# Altium integrated library Capacitors - Ceramic - 0402.IntLib: 4569 symbols (part 66 of 100)
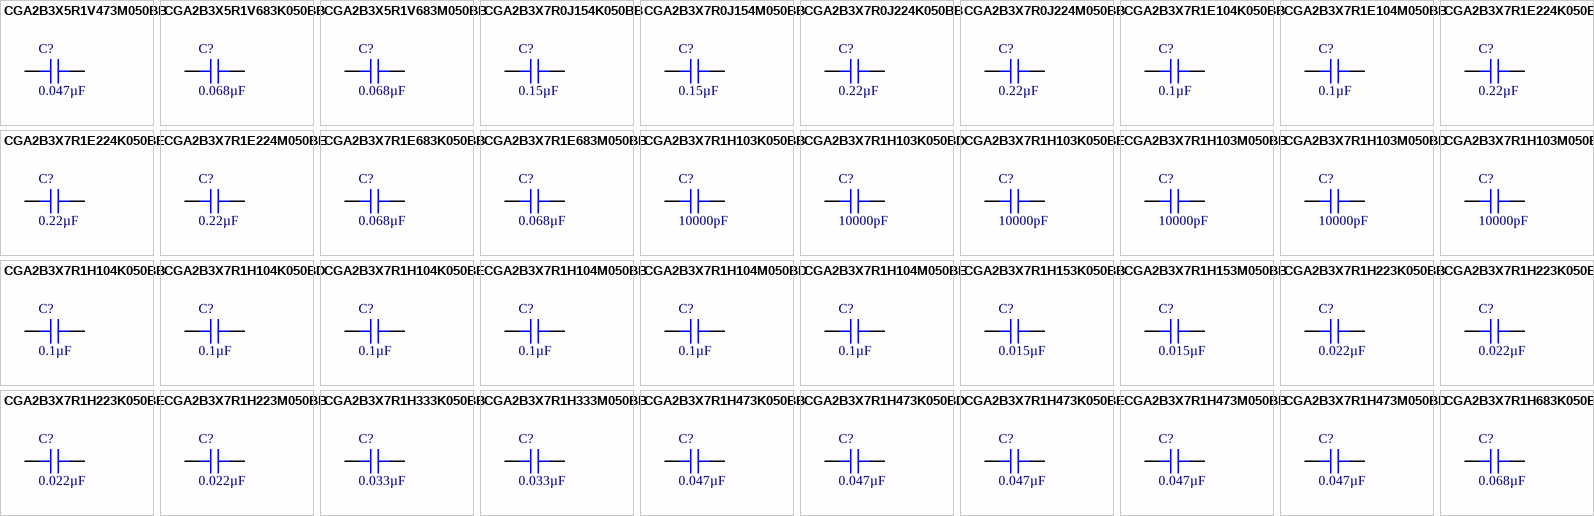
[diagram p179: symbols CGA2B3X5R1V473M050BB to CGA2B3X7R1H683K050BB]

## CGA2B3X7R1H153K050BB
designator C?, comment 0.015µF
CAP CER 0.015UF 50V X7R 0402; Part Number: CGA2B3X7R1H153K050BB; Manufacturer: TDK Corporation; Tolerance: ±10%; Value: 0.015µF; Applications: Automotive; Capacitance: 0.015µF; ComponentLink1Description: Datasheet; ComponentLink1URL: https://product.tdk.com/info/en/catalog/datasheets/mlcc_automotive_general_en.pdf?ref_disty=digikey; ComponentLink2Description: DigiKey Link; ComponentLink2URL: http://digikey.com/product-detail/en/tdk-corporation/CGA2B3X7R1H153K050BB/445-6894-1-ND/2672912; Device Package: 0402 (1005 Metric); LastUpdated: 9/2/2020 1:02:24 AM; Lifecycle Status: Active; Minimum Order: 1; Mounting Type: Surface Mount, MLCC; Operating Temperature: -55°C ~ 125°C; Package / Case: 0402 (1005 Metric); Packaging: TapeAndReel; PartId: 1927; Part Status: Active; Price: 0.01; Ratings: AEC-Q200; Series: CGA; Size / Dimension: 0.039" L x 0.020" W (1.00mm x 0.50mm); Supplier 1: DigiKey; Supplier Part Number 1: 445-6894-1-ND; Temperature Coefficient: X7R; Thickness (Max): 0.022" (0.55mm); Voltage - Rated: 50V
footprint CAP 0402_1005
pins: 1, 2

## CGA2B3X7R1H153M050BB
designator C?, comment 0.015µF
CAP CER 0.015UF 50V X7R 0402; Part Number: CGA2B3X7R1H153M050BB; Manufacturer: TDK Corporation; Tolerance: ±20%; Value: 0.015µF; Applications: Automotive; Capacitance: 0.015µF; ComponentLink1Description: Datasheet; ComponentLink1URL: https://product.tdk.com/info/en/catalog/datasheets/mlcc_automotive_general_en.pdf?ref_disty=digikey; ComponentLink2Description: DigiKey Link; ComponentLink2URL: http://digikey.com/product-detail/en/tdk-corporation/CGA2B3X7R1H153M050BB/445-12266-1-ND/3953932; Device Package: 0402 (1005 Metric); LastUpdated: 9/2/2020 1:01:27 AM; Lifecycle Status: Active; Minimum Order: 1; Mounting Type: Surface Mount, MLCC; Operating Temperature: -55°C ~ 125°C; Package / Case: 0402 (1005 Metric); Packaging: TapeAndReel; PartId: 12968; Part Status: Active; Price: 0.01; Ratings: AEC-Q200; Series: CGA; Size / Dimension: 0.039" L x 0.020" W (1.00mm x 0.50mm); Supplier 1: DigiKey; Supplier Part Number 1: 445-12266-1-ND; Temperature Coefficient: X7R; Thickness (Max): 0.022" (0.55mm); Voltage - Rated: 50V
footprint CAP 0402_1005
pins: 1, 2

## CGA2B3X7R1H223K050BB
designator C?, comment 0.022µF
CAP CER 0.022UF 50V X7R 0402; Part Number: CGA2B3X7R1H223K050BB; Manufacturer: TDK Corporation; Tolerance: ±10%; Value: 0.022µF; Applications: Automotive; Capacitance: 0.022µF; ComponentLink1Description: Datasheet; ComponentLink1URL: https://product.tdk.com/info/en/catalog/datasheets/mlcc_automotive_general_en.pdf?ref_disty=digikey; ComponentLink2Description: DigiKey Link; ComponentLink2URL: http://digikey.com/product-detail/en/tdk-corporation/CGA2B3X7R1H223K050BB/445-6895-1-ND/2672913; Device Package: 0402 (1005 Metric); LastUpdated: 9/2/2020 1:02:09 AM; Lifecycle Status: Active; Minimum Order: 1; Mounting Type: Surface Mount, MLCC; Operating Temperature: -55°C ~ 125°C; Package / Case: 0402 (1005 Metric); Packaging: TapeAndReel; PartId: 8865; Part Status: Active; Price: 0.01; Ratings: AEC-Q200; Series: CGA; Size / Dimension: 0.039" L x 0.020" W (1.00mm x 0.50mm); Supplier 1: DigiKey; Supplier Part Number 1: 445-6895-1-ND; Temperature Coefficient: X7R; Thickness (Max): 0.022" (0.55mm); Voltage - Rated: 50V
footprint CAP 0402_1005
pins: 1, 2

## CGA2B3X7R1H223K050BD
designator C?, comment 0.022µF
CAP CER 0.022UF 50V 0402 EPOXY; Part Number: CGA2B3X7R1H223K050BD; Manufacturer: TDK Corporation; Temperature Coefficient: X7R; Tolerance: ±10%; Value: 0.022µF; Applications: Automotive; Capacitance: 0.022µF; ComponentLink1Description: Datasheet; ComponentLink1URL: https://product.tdk.com/info/en/catalog/datasheets/mlcc_automotive_epoxy_en.pdf?ref_disty=digikey; ComponentLink2Description: DigiKey Link; ComponentLink2URL: http://digikey.com/product-detail/en/tdk-corporation/CGA2B3X7R1H223K050BD/445-9685-1-ND/3931612; Device Package: 0402 (1005 Metric); Features: Epoxy Mountable; LastUpdated: 9/2/2020 1:02:06 AM; Lifecycle Status: Active; Minimum Order: 1; Mounting Type: Surface Mount, MLCC, Epoxy; Operating Temperature: -55°C ~ 125°C; Package / Case: 0402 (1005 Metric); Packaging: TapeAndReel; PartId: 9795; Part Status: Active; Price: 0.03; Ratings: AEC-Q200; Series: CGA; Size / Dimension: 0.039" L x 0.020" W (1.00mm x 0.50mm); Supplier 1: DigiKey; Supplier Part Number 1: 445-9685-1-ND; Thickness (Max): 0.024" (0.60mm); Voltage - Rated: 50V
footprint CAP 0402_1005
pins: 1, 2

## CGA2B3X7R1H223K050BE
designator C?, comment 0.022µF
CAP CER 0.022UF 50V X7R 0402; Part Number: CGA2B3X7R1H223K050BE; Manufacturer: TDK Corporation; Tolerance: ±10%; Value: 0.022µF; Applications: Automotive, Boardflex Sensitive; Capacitance: 0.022µF; ComponentLink1Description: Datasheet; ComponentLink1URL: https://product.tdk.com/info/en/catalog/datasheets/mlcc_automotive_soft_en.pdf?ref_disty=digikey; ComponentLink2Description: DigiKey Link; ComponentLink2URL: http://digikey.com/product-detail/en/tdk-corporation/CGA2B3X7R1H223K050BE/445-173693-1-ND/5809764; Device Package: 0402 (1005 Metric); Features: Soft Termination; LastUpdated: 9/2/2020 1:02:14 AM; Lifecycle Status: Active; Minimum Order: 1; Mounting Type: Surface Mount, MLCC; Operating Temperature: -55°C ~ 125°C; Package / Case: 0402 (1005 Metric); Packaging: TapeAndReel; PartId: 6513; Part Status: Active; Price: 0.03; Ratings: AEC-Q200; Series: CGA; Size / Dimension: 0.039" L x 0.020" W (1.00mm x 0.50mm); Supplier 1: DigiKey; Supplier Part Number 1: 445-173693-1-ND; Temperature Coefficient: X7R; Thickness (Max): 0.024" (0.60mm); Voltage - Rated: 50V
footprint CAP 0402_1005
pins: 1, 2

## CGA2B3X7R1H223M050BB
designator C?, comment 0.022µF
CAP CER 0.022UF 50V X7R 0402; Part Number: CGA2B3X7R1H223M050BB; Manufacturer: TDK Corporation; Tolerance: ±20%; Value: 0.022µF; Applications: Automotive; Capacitance: 0.022µF; ComponentLink1Description: Datasheet; ComponentLink1URL: https://product.tdk.com/info/en/catalog/datasheets/mlcc_automotive_general_en.pdf?ref_disty=digikey; ComponentLink2Description: DigiKey Link; ComponentLink2URL: http://digikey.com/product-detail/en/tdk-corporation/CGA2B3X7R1H223M050BB/445-12267-1-ND/3953933; Device Package: 0402 (1005 Metric); LastUpdated: 9/2/2020 1:02:22 AM; Lifecycle Status: Active; Minimum Order: 1; Mounting Type: Surface Mount, MLCC; Operating Temperature: -55°C ~ 125°C; Package / Case: 0402 (1005 Metric); Packaging: TapeAndReel; PartId: 2803; Part Status: Active; Price: 0.01; Ratings: AEC-Q200; Series: CGA; Size / Dimension: 0.039" L x 0.020" W (1.00mm x 0.50mm); Supplier 1: DigiKey; Supplier Part Number 1: 445-12267-1-ND; Temperature Coefficient: X7R; Thickness (Max): 0.022" (0.55mm); Voltage - Rated: 50V
footprint CAP 0402_1005
pins: 1, 2

## CGA2B3X7R1H333K050BB
designator C?, comment 0.033µF
CAP CER 0.033UF 50V X7R 0402; Part Number: CGA2B3X7R1H333K050BB; Manufacturer: TDK Corporation; Tolerance: ±10%; Value: 0.033µF; Applications: Automotive; Capacitance: 0.033µF; ComponentLink1Description: Datasheet; ComponentLink1URL: https://product.tdk.com/info/en/catalog/datasheets/mlcc_automotive_general_en.pdf?ref_disty=digikey; ComponentLink2Description: DigiKey Link; ComponentLink2URL: http://digikey.com/product-detail/en/tdk-corporation/CGA2B3X7R1H333K050BB/445-6896-1-ND/2672914; Device Package: 0402 (1005 Metric); LastUpdated: 9/2/2020 1:02:11 AM; Lifecycle Status: Active; Minimum Order: 1; Mounting Type: Surface Mount, MLCC; Operating Temperature: -55°C ~ 125°C; Package / Case: 0402 (1005 Metric); Packaging: TapeAndReel; PartId: 7666; Part Status: Active; Price: 0.01; Ratings: AEC-Q200; Series: CGA; Size / Dimension: 0.039" L x 0.020" W (1.00mm x 0.50mm); Supplier 1: DigiKey; Supplier Part Number 1: 445-6896-1-ND; Temperature Coefficient: X7R; Thickness (Max): 0.022" (0.55mm); Voltage - Rated: 50V
footprint CAP 0402_1005
pins: 1, 2

## CGA2B3X7R1H333M050BB
designator C?, comment 0.033µF
CAP CER 0.033UF 50V X7R 0402; Part Number: CGA2B3X7R1H333M050BB; Manufacturer: TDK Corporation; Tolerance: ±20%; Value: 0.033µF; Applications: Automotive; Capacitance: 0.033µF; ComponentLink1Description: Datasheet; ComponentLink1URL: https://product.tdk.com/info/en/catalog/datasheets/mlcc_automotive_general_en.pdf?ref_disty=digikey; ComponentLink2Description: DigiKey Link; ComponentLink2URL: http://digikey.com/product-detail/en/tdk-corporation/CGA2B3X7R1H333M050BB/445-12268-1-ND/3953934; Device Package: 0402 (1005 Metric); LastUpdated: 9/2/2020 1:02:16 AM; Lifecycle Status: Active; Minimum Order: 1; Mounting Type: Surface Mount, MLCC; Operating Temperature: -55°C ~ 125°C; Package / Case: 0402 (1005 Metric); Packaging: TapeAndReel; PartId: 5550; Part Status: Active; Price: 0.01; Ratings: AEC-Q200; Series: CGA; Size / Dimension: 0.039" L x 0.020" W (1.00mm x 0.50mm); Supplier 1: DigiKey; Supplier Part Number 1: 445-12268-1-ND; Temperature Coefficient: X7R; Thickness (Max): 0.022" (0.55mm); Voltage - Rated: 50V
footprint CAP 0402_1005
pins: 1, 2

## CGA2B3X7R1H473K050BB
designator C?, comment 0.047µF
CAP CER 0.047UF 50V X7R 0402; Part Number: CGA2B3X7R1H473K050BB; Manufacturer: TDK Corporation; Tolerance: ±10%; Value: 0.047µF; Applications: Automotive; Capacitance: 0.047µF; ComponentLink1Description: Datasheet; ComponentLink1URL: https://product.tdk.com/info/en/catalog/datasheets/mlcc_automotive_general_en.pdf?ref_disty=digikey; ComponentLink2Description: DigiKey Link; ComponentLink2URL: http://digikey.com/product-detail/en/tdk-corporation/CGA2B3X7R1H473K050BB/445-6897-1-ND/2672915; Device Package: 0402 (1005 Metric); LastUpdated: 9/2/2020 1:02:21 AM; Lifecycle Status: Active; Minimum Order: 1; Mounting Type: Surface Mount, MLCC; Operating Temperature: -55°C ~ 125°C; Package / Case: 0402 (1005 Metric); Packaging: TapeAndReel; PartId: 3164; Part Status: Active; Price: 0.01; Ratings: AEC-Q200; Series: CGA; Size / Dimension: 0.039" L x 0.020" W (1.00mm x 0.50mm); Supplier 1: DigiKey; Supplier Part Number 1: 445-6897-1-ND; Temperature Coefficient: X7R; Thickness (Max): 0.022" (0.55mm); Voltage - Rated: 50V
footprint CAP 0402_1005
pins: 1, 2

## CGA2B3X7R1H473K050BD
designator C?, comment 0.047µF
CAP CER 0.047UF 50V 0402 EPOXY; Part Number: CGA2B3X7R1H473K050BD; Manufacturer: TDK Corporation; Temperature Coefficient: X7R; Tolerance: ±10%; Value: 0.047µF; Applications: Automotive; Capacitance: 0.047µF; ComponentLink1Description: Datasheet; ComponentLink1URL: https://product.tdk.com/info/en/catalog/datasheets/mlcc_automotive_epoxy_en.pdf?ref_disty=digikey; ComponentLink2Description: DigiKey Link; ComponentLink2URL: http://digikey.com/product-detail/en/tdk-corporation/CGA2B3X7R1H473K050BD/445-9689-1-ND/3931616; Device Package: 0402 (1005 Metric); Features: Epoxy Mountable; LastUpdated: 9/2/2020 1:01:56 AM; Lifecycle Status: Active; Minimum Order: 1; Mounting Type: Surface Mount, MLCC, Epoxy; Operating Temperature: -55°C ~ 125°C; Package / Case: 0402 (1005 Metric); Packaging: TapeAndReel; PartId: 11961; Part Status: Active; Price: 0.03; Ratings: AEC-Q200; Series: CGA; Size / Dimension: 0.039" L x 0.020" W (1.00mm x 0.50mm); Supplier 1: DigiKey; Supplier Part Number 1: 445-9689-1-ND; Thickness (Max): 0.024" (0.60mm); Voltage - Rated: 50V
footprint CAP 0402_1005
pins: 1, 2

## CGA2B3X7R1H473K050BE
designator C?, comment 0.047µF
CAP CER 0.047UF 50V X7R 0402; Part Number: CGA2B3X7R1H473K050BE; Manufacturer: TDK Corporation; Tolerance: ±10%; Value: 0.047µF; Applications: Automotive, Boardflex Sensitive; Capacitance: 0.047µF; ComponentLink1Description: Datasheet; ComponentLink1URL: https://product.tdk.com/info/en/catalog/datasheets/mlcc_automotive_soft_en.pdf?ref_disty=digikey; ComponentLink2Description: DigiKey Link; ComponentLink2URL: http://digikey.com/product-detail/en/tdk-corporation/CGA2B3X7R1H473K050BE/445-173647-1-ND/5809718; Device Package: 0402 (1005 Metric); Features: Soft Termination; LastUpdated: 9/2/2020 1:02:13 AM; Lifecycle Status: Active; Minimum Order: 1; Mounting Type: Surface Mount, MLCC; Operating Temperature: -55°C ~ 125°C; Package / Case: 0402 (1005 Metric); Packaging: TapeAndReel; PartId: 6936; Part Status: Active; Price: 0.03; Ratings: AEC-Q200; Series: CGA; Size / Dimension: 0.039" L x 0.020" W (1.00mm x 0.50mm); Supplier 1: DigiKey; Supplier Part Number 1: 445-173647-1-ND; Temperature Coefficient: X7R; Thickness (Max): 0.024" (0.60mm); Voltage - Rated: 50V
footprint CAP 0402_1005
pins: 1, 2

## CGA2B3X7R1H473M050BB
designator C?, comment 0.047µF
CAP CER 0.047UF 50V X7R 0402; Part Number: CGA2B3X7R1H473M050BB; Manufacturer: TDK Corporation; Tolerance: ±20%; Value: 0.047µF; Applications: Automotive; Capacitance: 0.047µF; ComponentLink1Description: Datasheet; ComponentLink1URL: https://product.tdk.com/info/en/catalog/datasheets/mlcc_automotive_general_en.pdf?ref_disty=digikey; ComponentLink2Description: DigiKey Link; ComponentLink2URL: http://digikey.com/product-detail/en/tdk-corporation/CGA2B3X7R1H473M050BB/445-12269-1-ND/3953935; Device Package: 0402 (1005 Metric); LastUpdated: 9/2/2020 1:01:27 AM; Lifecycle Status: Active; Minimum Order: 1; Mounting Type: Surface Mount, MLCC; Operating Temperature: -55°C ~ 125°C; Package / Case: 0402 (1005 Metric); Packaging: TapeAndReel; PartId: 12971; Part Status: Active; Price: 0.01; Ratings: AEC-Q200; Series: CGA; Size / Dimension: 0.039" L x 0.020" W (1.00mm x 0.50mm); Supplier 1: DigiKey; Supplier Part Number 1: 445-12269-1-ND; Temperature Coefficient: X7R; Thickness (Max): 0.022" (0.55mm); Voltage - Rated: 50V
footprint CAP 0402_1005
pins: 1, 2

## CGA2B3X7R1H473M050BD
designator C?, comment 0.047µF
CAP CER 0.047UF 50V 0402 EPOXY; Part Number: CGA2B3X7R1H473M050BD; Manufacturer: TDK Corporation; Temperature Coefficient: X7R; Tolerance: ±20%; Value: 0.047µF; Applications: Automotive; Capacitance: 0.047µF; ComponentLink1Description: Datasheet; ComponentLink1URL: https://product.tdk.com/info/en/catalog/datasheets/mlcc_automotive_epoxy_en.pdf?ref_disty=digikey; ComponentLink2Description: DigiKey Link; ComponentLink2URL: http://digikey.com/product-detail/en/tdk-corporation/CGA2B3X7R1H473M050BD/445-9690-1-ND/3931617; Device Package: 0402 (1005 Metric); Features: Epoxy Mountable; LastUpdated: 9/2/2020 1:02:14 AM; Lifecycle Status: Active; Minimum Order: 1; Mounting Type: Surface Mount, MLCC, Epoxy; Operating Temperature: -55°C ~ 125°C; Package / Case: 0402 (1005 Metric); Packaging: TapeAndReel; PartId: 6444; Part Status: Active; Price: 0.03; Ratings: AEC-Q200; Series: CGA; Size / Dimension: 0.039" L x 0.020" W (1.00mm x 0.50mm); Supplier 1: DigiKey; Supplier Part Number 1: 445-9690-1-ND; Thickness (Max): 0.024" (0.60mm); Voltage - Rated: 50V
footprint CAP 0402_1005
pins: 1, 2

## CGA2B3X7R1H683K050BB
designator C?, comment 0.068µF
CAP CER 0.068UF 50V X7R 0402; Part Number: CGA2B3X7R1H683K050BB; Manufacturer: TDK Corporation; Tolerance: ±10%; Value: 0.068µF; Applications: Automotive; Capacitance: 0.068µF; ComponentLink1Description: Datasheet; ComponentLink1URL: https://product.tdk.com/info/en/catalog/datasheets/mlcc_automotive_general_en.pdf?ref_disty=digikey; ComponentLink2Description: DigiKey Link; ComponentLink2URL: http://digikey.com/product-detail/en/tdk-corporation/CGA2B3X7R1H683K050BB/445-6898-1-ND/2672916; Device Package: 0402 (1005 Metric); LastUpdated: 9/2/2020 1:02:25 AM; Lifecycle Status: Active; Minimum Order: 1; Mounting Type: Surface Mount, MLCC; Operating Temperature: -55°C ~ 125°C; Package / Case: 0402 (1005 Metric); Packaging: TapeAndReel; PartId: 1772; Part Status: Active; Price: 0.02; Ratings: AEC-Q200; Series: CGA; Size / Dimension: 0.039" L x 0.020" W (1.00mm x 0.50mm); Supplier 1: DigiKey; Supplier Part Number 1: 445-6898-1-ND; Temperature Coefficient: X7R; Thickness (Max): 0.022" (0.55mm); Voltage - Rated: 50V
footprint CAP 0402_1005
pins: 1, 2

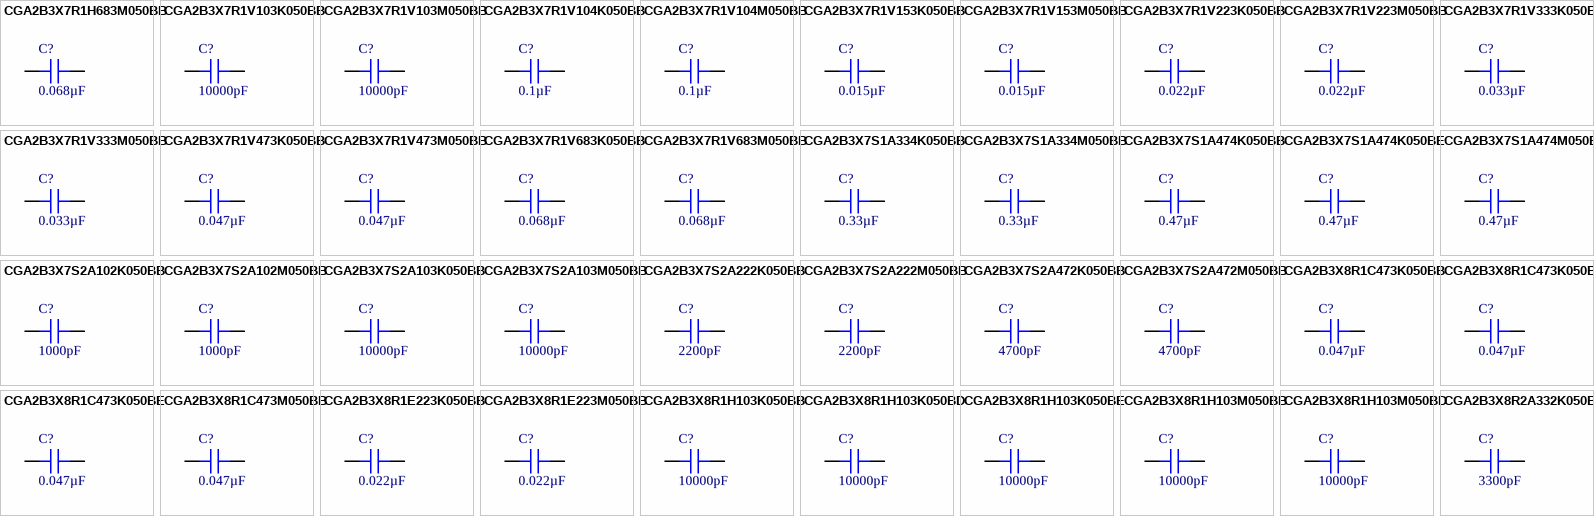
[diagram p75: symbols CGA2B3X7R1H683M050BB to CGA2B3X8R2A332K050BB]

## CGA2B3X7R1H683M050BB
designator C?, comment 0.068µF
CAP CER 0.068UF 50V X7R 0402; Part Number: CGA2B3X7R1H683M050BB; Manufacturer: TDK Corporation; Tolerance: ±20%; Value: 0.068µF; Applications: Automotive; Capacitance: 0.068µF; ComponentLink1Description: Datasheet; ComponentLink1URL: https://product.tdk.com/info/en/catalog/datasheets/mlcc_automotive_general_en.pdf?ref_disty=digikey; ComponentLink2Description: DigiKey Link; ComponentLink2URL: http://digikey.com/product-detail/en/tdk-corporation/CGA2B3X7R1H683M050BB/445-12270-1-ND/3953936; Device Package: 0402 (1005 Metric); LastUpdated: 9/2/2020 1:01:58 AM; Lifecycle Status: Active; Minimum Order: 1; Mounting Type: Surface Mount, MLCC; Operating Temperature: -55°C ~ 125°C; Package / Case: 0402 (1005 Metric); Packaging: TapeAndReel; PartId: 11890; Part Status: Active; Price: 0.02; Ratings: AEC-Q200; Series: CGA; Size / Dimension: 0.039" L x 0.020" W (1.00mm x 0.50mm); Supplier 1: DigiKey; Supplier Part Number 1: 445-12270-1-ND; Temperature Coefficient: X7R; Thickness (Max): 0.022" (0.55mm); Voltage - Rated: 50V
footprint CAP 0402_1005
pins: 1, 2

## CGA2B3X7R1V103K050BB
designator C?, comment 10000pF
CAP CER 10000PF 35V X7R 0402; Part Number: CGA2B3X7R1V103K050BB; Manufacturer: TDK Corporation; Tolerance: ±10%; Value: 10000pF; Applications: Automotive; Capacitance: 10000pF; ComponentLink1Description: Datasheet; ComponentLink1URL: https://product.tdk.com/info/en/catalog/datasheets/mlcc_automotive_general_en.pdf?ref_disty=digikey; ComponentLink2Description: DigiKey Link; ComponentLink2URL: http://digikey.com/product-detail/en/tdk-corporation/CGA2B3X7R1V103K050BB/445-6900-1-ND/2672918; Device Package: 0402 (1005 Metric); LastUpdated: 9/2/2020 1:02:09 AM; Lifecycle Status: Active; Minimum Order: 1; Mounting Type: Surface Mount, MLCC; Operating Temperature: -55°C ~ 125°C; Package / Case: 0402 (1005 Metric); Packaging: TapeAndReel; PartId: 8846; Part Status: Active; Price: 0.01; Ratings: AEC-Q200; Series: CGA; Size / Dimension: 0.039" L x 0.020" W (1.00mm x 0.50mm); Supplier 1: DigiKey; Supplier Part Number 1: 445-6900-1-ND; Temperature Coefficient: X7R; Thickness (Max): 0.022" (0.55mm); Voltage - Rated: 35V
footprint CAP 0402_1005
pins: 1, 2

## CGA2B3X7R1V103M050BB
designator C?, comment 10000pF
CAP CER 10000PF 35V X7R 0402; Part Number: CGA2B3X7R1V103M050BB; Manufacturer: TDK Corporation; Tolerance: ±20%; Value: 10000pF; Applications: Automotive; Capacitance: 10000pF; ComponentLink1Description: Datasheet; ComponentLink1URL: https://product.tdk.com/info/en/catalog/datasheets/mlcc_automotive_general_en.pdf?ref_disty=digikey; ComponentLink2Description: DigiKey Link; ComponentLink2URL: http://digikey.com/product-detail/en/tdk-corporation/CGA2B3X7R1V103M050BB/445-12253-1-ND/3953919; Device Package: 0402 (1005 Metric); LastUpdated: 9/2/2020 1:02:24 AM; Lifecycle Status: Active; Minimum Order: 1; Mounting Type: Surface Mount, MLCC; Operating Temperature: -55°C ~ 125°C; Package / Case: 0402 (1005 Metric); Packaging: TapeAndReel; PartId: 1926; Part Status: Active; Price: 0.01; Ratings: AEC-Q200; Series: CGA; Size / Dimension: 0.039" L x 0.020" W (1.00mm x 0.50mm); Supplier 1: DigiKey; Supplier Part Number 1: 445-12253-1-ND; Temperature Coefficient: X7R; Thickness (Max): 0.022" (0.55mm); Voltage - Rated: 35V
footprint CAP 0402_1005
pins: 1, 2

## CGA2B3X7R1V104K050BB
designator C?, comment 0.1µF
CAP CER 0.1UF 35V X7R 0402; Part Number: CGA2B3X7R1V104K050BB; Manufacturer: TDK Corporation; Tolerance: ±10%; Value: 0.1µF; Applications: Automotive; Capacitance: 0.1µF; ComponentLink1Description: Datasheet; ComponentLink1URL: https://product.tdk.com/info/en/catalog/datasheets/mlcc_automotive_general_en.pdf?ref_disty=digikey; ComponentLink2Description: DigiKey Link; ComponentLink2URL: http://digikey.com/product-detail/en/tdk-corporation/CGA2B3X7R1V104K050BB/445-6901-1-ND/2672919; Device Package: 0402 (1005 Metric); LastUpdated: 9/2/2020 1:02:21 AM; Lifecycle Status: Active; Minimum Order: 1; Mounting Type: Surface Mount, MLCC; Operating Temperature: -55°C ~ 125°C; Package / Case: 0402 (1005 Metric); Packaging: TapeAndReel; PartId: 3228; Part Status: Active; Price: 0.02; Ratings: AEC-Q200; Series: CGA; Size / Dimension: 0.039" L x 0.020" W (1.00mm x 0.50mm); Supplier 1: DigiKey; Supplier Part Number 1: 445-6901-1-ND; Temperature Coefficient: X7R; Thickness (Max): 0.022" (0.55mm); Voltage - Rated: 35V
footprint CAP 0402_1005
pins: 1, 2

## CGA2B3X7R1V104M050BB
designator C?, comment 0.1µF
CAP CER 0.1UF 35V X7R 0402; Part Number: CGA2B3X7R1V104M050BB; Manufacturer: TDK Corporation; Tolerance: ±20%; Value: 0.1µF; Applications: Automotive; Capacitance: 0.1µF; ComponentLink1Description: Datasheet; ComponentLink1URL: https://product.tdk.com/info/en/catalog/datasheets/mlcc_automotive_general_en.pdf?ref_disty=digikey; ComponentLink2Description: DigiKey Link; ComponentLink2URL: http://digikey.com/product-detail/en/tdk-corporation/CGA2B3X7R1V104M050BB/445-12264-1-ND/3953930; Device Package: 0402 (1005 Metric); LastUpdated: 9/2/2020 1:02:23 AM; Lifecycle Status: Active; Minimum Order: 1; Mounting Type: Surface Mount, MLCC; Operating Temperature: -55°C ~ 125°C; Package / Case: 0402 (1005 Metric); Packaging: TapeAndReel; PartId: 2251; Part Status: Active; Price: 0.02; Ratings: AEC-Q200; Series: CGA; Size / Dimension: 0.039" L x 0.020" W (1.00mm x 0.50mm); Supplier 1: DigiKey; Supplier Part Number 1: 445-12264-1-ND; Temperature Coefficient: X7R; Thickness (Max): 0.022" (0.55mm); Voltage - Rated: 35V
footprint CAP 0402_1005
pins: 1, 2

## CGA2B3X7R1V153K050BB
designator C?, comment 0.015µF
CAP CER 0.015UF 35V X7R 0402; Part Number: CGA2B3X7R1V153K050BB; Manufacturer: TDK Corporation; Tolerance: ±10%; Value: 0.015µF; Applications: Automotive; Capacitance: 0.015µF; ComponentLink1Description: Datasheet; ComponentLink1URL: https://product.tdk.com/info/en/catalog/datasheets/mlcc_automotive_general_en.pdf?ref_disty=digikey; ComponentLink2Description: DigiKey Link; ComponentLink2URL: http://digikey.com/product-detail/en/tdk-corporation/CGA2B3X7R1V153K050BB/445-12254-1-ND/3953920; Device Package: 0402 (1005 Metric); LastUpdated: 9/2/2020 1:02:17 AM; Lifecycle Status: Active; Minimum Order: 1; Mounting Type: Surface Mount, MLCC; Operating Temperature: -55°C ~ 125°C; Package / Case: 0402 (1005 Metric); Packaging: TapeAndReel; PartId: 5149; Part Status: Active; Price: 0.01; Ratings: AEC-Q200; Series: CGA; Size / Dimension: 0.039" L x 0.020" W (1.00mm x 0.50mm); Supplier 1: DigiKey; Supplier Part Number 1: 445-12254-1-ND; Temperature Coefficient: X7R; Thickness (Max): 0.022" (0.55mm); Voltage - Rated: 35V
footprint CAP 0402_1005
pins: 1, 2

## CGA2B3X7R1V153M050BB
designator C?, comment 0.015µF
CAP CER 0.015UF 35V X7R 0402; Part Number: CGA2B3X7R1V153M050BB; Manufacturer: TDK Corporation; Tolerance: ±20%; Value: 0.015µF; Applications: Automotive; Capacitance: 0.015µF; ComponentLink1Description: Datasheet; ComponentLink1URL: https://product.tdk.com/info/en/catalog/datasheets/mlcc_automotive_general_en.pdf?ref_disty=digikey; ComponentLink2Description: DigiKey Link; ComponentLink2URL: http://digikey.com/product-detail/en/tdk-corporation/CGA2B3X7R1V153M050BB/445-12255-1-ND/3953921; Device Package: 0402 (1005 Metric); LastUpdated: 9/2/2020 1:02:06 AM; Lifecycle Status: Active; Minimum Order: 1; Mounting Type: Surface Mount, MLCC; Operating Temperature: -55°C ~ 125°C; Package / Case: 0402 (1005 Metric); Packaging: TapeAndReel; PartId: 9975; Part Status: Active; Price: 0.01; Ratings: AEC-Q200; Series: CGA; Size / Dimension: 0.039" L x 0.020" W (1.00mm x 0.50mm); Supplier 1: DigiKey; Supplier Part Number 1: 445-12255-1-ND; Temperature Coefficient: X7R; Thickness (Max): 0.022" (0.55mm); Voltage - Rated: 35V
footprint CAP 0402_1005
pins: 1, 2

## CGA2B3X7R1V223K050BB
designator C?, comment 0.022µF
CAP CER 0.022UF 35V X7R 0402; Part Number: CGA2B3X7R1V223K050BB; Manufacturer: TDK Corporation; Tolerance: ±10%; Value: 0.022µF; Applications: Automotive; Capacitance: 0.022µF; ComponentLink1Description: Datasheet; ComponentLink1URL: https://product.tdk.com/info/en/catalog/datasheets/mlcc_automotive_general_en.pdf?ref_disty=digikey; ComponentLink2Description: DigiKey Link; ComponentLink2URL: http://digikey.com/product-detail/en/tdk-corporation/CGA2B3X7R1V223K050BB/445-12256-1-ND/3953922; Device Package: 0402 (1005 Metric); LastUpdated: 9/2/2020 1:02:16 AM; Lifecycle Status: Active; Minimum Order: 1; Mounting Type: Surface Mount, MLCC; Operating Temperature: -55°C ~ 125°C; Package / Case: 0402 (1005 Metric); Packaging: TapeAndReel; PartId: 5216; Part Status: Active; Price: 0.01; Ratings: AEC-Q200; Series: CGA; Size / Dimension: 0.039" L x 0.020" W (1.00mm x 0.50mm); Supplier 1: DigiKey; Supplier Part Number 1: 445-12256-1-ND; Temperature Coefficient: X7R; Thickness (Max): 0.022" (0.55mm); Voltage - Rated: 35V
footprint CAP 0402_1005
pins: 1, 2

## CGA2B3X7R1V223M050BB
designator C?, comment 0.022µF
CAP CER 0.022UF 35V X7R 0402; Part Number: CGA2B3X7R1V223M050BB; Manufacturer: TDK Corporation; Tolerance: ±20%; Value: 0.022µF; Applications: Automotive; Capacitance: 0.022µF; ComponentLink1Description: Datasheet; ComponentLink1URL: https://product.tdk.com/info/en/catalog/datasheets/mlcc_automotive_general_en.pdf?ref_disty=digikey; ComponentLink2Description: DigiKey Link; ComponentLink2URL: http://digikey.com/product-detail/en/tdk-corporation/CGA2B3X7R1V223M050BB/445-12257-1-ND/3953923; Device Package: 0402 (1005 Metric); LastUpdated: 9/2/2020 1:02:12 AM; Lifecycle Status: Active; Minimum Order: 1; Mounting Type: Surface Mount, MLCC; Operating Temperature: -55°C ~ 125°C; Package / Case: 0402 (1005 Metric); Packaging: TapeAndReel; PartId: 7351; Part Status: Active; Price: 0.01; Ratings: AEC-Q200; Series: CGA; Size / Dimension: 0.039" L x 0.020" W (1.00mm x 0.50mm); Supplier 1: DigiKey; Supplier Part Number 1: 445-12257-1-ND; Temperature Coefficient: X7R; Thickness (Max): 0.022" (0.55mm); Voltage - Rated: 35V
footprint CAP 0402_1005
pins: 1, 2

## CGA2B3X7R1V333K050BB
designator C?, comment 0.033µF
CAP CER 0.033UF 35V X7R 0402; Part Number: CGA2B3X7R1V333K050BB; Manufacturer: TDK Corporation; Tolerance: ±10%; Value: 0.033µF; Applications: Automotive; Capacitance: 0.033µF; ComponentLink1Description: Datasheet; ComponentLink1URL: https://product.tdk.com/info/en/catalog/datasheets/mlcc_automotive_general_en.pdf?ref_disty=digikey; ComponentLink2Description: DigiKey Link; ComponentLink2URL: http://digikey.com/product-detail/en/tdk-corporation/CGA2B3X7R1V333K050BB/445-12258-1-ND/3953924; Device Package: 0402 (1005 Metric); LastUpdated: 9/2/2020 1:02:18 AM; Lifecycle Status: Active; Minimum Order: 1; Mounting Type: Surface Mount, MLCC; Operating Temperature: -55°C ~ 125°C; Package / Case: 0402 (1005 Metric); Packaging: TapeAndReel; PartId: 4431; Part Status: Active; Price: 0.01; Ratings: AEC-Q200; Series: CGA; Size / Dimension: 0.039" L x 0.020" W (1.00mm x 0.50mm); Supplier 1: DigiKey; Supplier Part Number 1: 445-12258-1-ND; Temperature Coefficient: X7R; Thickness (Max): 0.022" (0.55mm); Voltage - Rated: 35V
footprint CAP 0402_1005
pins: 1, 2

## CGA2B3X7R1V333M050BB
designator C?, comment 0.033µF
CAP CER 0.033UF 35V X7R 0402; Part Number: CGA2B3X7R1V333M050BB; Manufacturer: TDK Corporation; Tolerance: ±20%; Value: 0.033µF; Applications: Automotive; Capacitance: 0.033µF; ComponentLink1Description: Datasheet; ComponentLink1URL: https://product.tdk.com/info/en/catalog/datasheets/mlcc_automotive_general_en.pdf?ref_disty=digikey; ComponentLink2Description: DigiKey Link; ComponentLink2URL: http://digikey.com/product-detail/en/tdk-corporation/CGA2B3X7R1V333M050BB/445-12259-1-ND/3953925; Device Package: 0402 (1005 Metric); LastUpdated: 9/2/2020 1:02:12 AM; Lifecycle Status: Active; Minimum Order: 1; Mounting Type: Surface Mount, MLCC; Operating Temperature: -55°C ~ 125°C; Package / Case: 0402 (1005 Metric); Packaging: TapeAndReel; PartId: 7393; Part Status: Active; Price: 0.01; Ratings: AEC-Q200; Series: CGA; Size / Dimension: 0.039" L x 0.020" W (1.00mm x 0.50mm); Supplier 1: DigiKey; Supplier Part Number 1: 445-12259-1-ND; Temperature Coefficient: X7R; Thickness (Max): 0.022" (0.55mm); Voltage - Rated: 35V
footprint CAP 0402_1005
pins: 1, 2

## CGA2B3X7R1V473K050BB
designator C?, comment 0.047µF
CAP CER 0.047UF 35V X7R 0402; Part Number: CGA2B3X7R1V473K050BB; Manufacturer: TDK Corporation; Tolerance: ±10%; Value: 0.047µF; Applications: Automotive; Capacitance: 0.047µF; ComponentLink1Description: Datasheet; ComponentLink1URL: https://product.tdk.com/info/en/catalog/datasheets/mlcc_automotive_general_en.pdf?ref_disty=digikey; ComponentLink2Description: DigiKey Link; ComponentLink2URL: http://digikey.com/product-detail/en/tdk-corporation/CGA2B3X7R1V473K050BB/445-12260-1-ND/3953926; Device Package: 0402 (1005 Metric); LastUpdated: 9/2/2020 1:02:16 AM; Lifecycle Status: Active; Minimum Order: 1; Mounting Type: Surface Mount, MLCC; Operating Temperature: -55°C ~ 125°C; Package / Case: 0402 (1005 Metric); Packaging: TapeAndReel; PartId: 5512; Part Status: Active; Price: 0.01; Ratings: AEC-Q200; Series: CGA; Size / Dimension: 0.039" L x 0.020" W (1.00mm x 0.50mm); Supplier 1: DigiKey; Supplier Part Number 1: 445-12260-1-ND; Temperature Coefficient: X7R; Thickness (Max): 0.022" (0.55mm); Voltage - Rated: 35V
footprint CAP 0402_1005
pins: 1, 2

## CGA2B3X7R1V473M050BB
designator C?, comment 0.047µF
CAP CER 0.047UF 35V X7R 0402; Part Number: CGA2B3X7R1V473M050BB; Manufacturer: TDK Corporation; Tolerance: ±20%; Value: 0.047µF; Applications: Automotive; Capacitance: 0.047µF; ComponentLink1Description: Datasheet; ComponentLink1URL: https://product.tdk.com/info/en/catalog/datasheets/mlcc_automotive_general_en.pdf?ref_disty=digikey; ComponentLink2Description: DigiKey Link; ComponentLink2URL: http://digikey.com/product-detail/en/tdk-corporation/CGA2B3X7R1V473M050BB/445-12261-1-ND/3953927; Device Package: 0402 (1005 Metric); LastUpdated: 9/2/2020 1:02:12 AM; Lifecycle Status: Active; Minimum Order: 1; Mounting Type: Surface Mount, MLCC; Operating Temperature: -55°C ~ 125°C; Package / Case: 0402 (1005 Metric); Packaging: TapeAndReel; PartId: 7407; Part Status: Active; Price: 0.01; Ratings: AEC-Q200; Series: CGA; Size / Dimension: 0.039" L x 0.020" W (1.00mm x 0.50mm); Supplier 1: DigiKey; Supplier Part Number 1: 445-12261-1-ND; Temperature Coefficient: X7R; Thickness (Max): 0.022" (0.55mm); Voltage - Rated: 35V
footprint CAP 0402_1005
pins: 1, 2

## CGA2B3X7R1V683K050BB
designator C?, comment 0.068µF
CAP CER 0.068UF 35V X7R 0402; Part Number: CGA2B3X7R1V683K050BB; Manufacturer: TDK Corporation; Tolerance: ±10%; Value: 0.068µF; Applications: Automotive; Capacitance: 0.068µF; ComponentLink1Description: Datasheet; ComponentLink1URL: https://product.tdk.com/info/en/catalog/datasheets/mlcc_automotive_general_en.pdf?ref_disty=digikey; ComponentLink2Description: DigiKey Link; ComponentLink2URL: http://digikey.com/product-detail/en/tdk-corporation/CGA2B3X7R1V683K050BB/445-12262-1-ND/3953928; Device Package: 0402 (1005 Metric); LastUpdated: 9/2/2020 1:01:58 AM; Lifecycle Status: Active; Minimum Order: 1; Mounting Type: Surface Mount, MLCC; Operating Temperature: -55°C ~ 125°C; Package / Case: 0402 (1005 Metric); Packaging: TapeAndReel; PartId: 11903; Part Status: Active; Price: 0.02; Ratings: AEC-Q200; Series: CGA; Size / Dimension: 0.039" L x 0.020" W (1.00mm x 0.50mm); Supplier 1: DigiKey; Supplier Part Number 1: 445-12262-1-ND; Temperature Coefficient: X7R; Thickness (Max): 0.022" (0.55mm); Voltage - Rated: 35V
footprint CAP 0402_1005
pins: 1, 2

## CGA2B3X7R1V683M050BB
designator C?, comment 0.068µF
CAP CER 0.068UF 35V X7R 0402; Part Number: CGA2B3X7R1V683M050BB; Manufacturer: TDK Corporation; Tolerance: ±20%; Value: 0.068µF; Applications: Automotive; Capacitance: 0.068µF; ComponentLink1Description: Datasheet; ComponentLink1URL: https://product.tdk.com/info/en/catalog/datasheets/mlcc_automotive_general_en.pdf?ref_disty=digikey; ComponentLink2Description: DigiKey Link; ComponentLink2URL: http://digikey.com/product-detail/en/tdk-corporation/CGA2B3X7R1V683M050BB/445-12263-1-ND/3953929; Device Package: 0402 (1005 Metric); LastUpdated: 9/2/2020 1:01:58 AM; Lifecycle Status: Active; Minimum Order: 1; Mounting Type: Surface Mount, MLCC; Operating Temperature: -55°C ~ 125°C; Package / Case: 0402 (1005 Metric); Packaging: TapeAndReel; PartId: 11906; Part Status: Active; Price: 0.02; Ratings: AEC-Q200; Series: CGA; Size / Dimension: 0.039" L x 0.020" W (1.00mm x 0.50mm); Supplier 1: DigiKey; Supplier Part Number 1: 445-12263-1-ND; Temperature Coefficient: X7R; Thickness (Max): 0.022" (0.55mm); Voltage - Rated: 35V
footprint CAP 0402_1005
pins: 1, 2

## CGA2B3X7S1A334K050BB
designator C?, comment 0.33µF
CAP CER 0.33UF 10V X7S 0402; Part Number: CGA2B3X7S1A334K050BB; Manufacturer: TDK Corporation; Tolerance: ±10%; Value: 0.33µF; Applications: Automotive; Capacitance: 0.33µF; ComponentLink1Description: Datasheet; ComponentLink1URL: https://product.tdk.com/info/en/catalog/datasheets/mlcc_automotive_general_en.pdf?ref_disty=digikey; ComponentLink2Description: DigiKey Link; ComponentLink2URL: http://digikey.com/product-detail/en/tdk-corporation/CGA2B3X7S1A334K050BB/445-16098-1-ND/4712577; Device Package: 0402 (1005 Metric); LastUpdated: 9/2/2020 1:02:17 AM; Lifecycle Status: Active; Minimum Order: 1; Mounting Type: Surface Mount, MLCC; Operating Temperature: -55°C ~ 125°C; Package / Case: 0402 (1005 Metric); Packaging: TapeAndReel; PartId: 5055; Part Status: Active; Price: 0.04; Ratings: AEC-Q200; Series: CGA; Size / Dimension: 0.039" L x 0.020" W (1.00mm x 0.50mm); Supplier 1: DigiKey; Supplier Part Number 1: 445-16098-1-ND; Temperature Coefficient: X7S; Thickness (Max): 0.022" (0.55mm); Voltage - Rated: 10V
footprint CAP 0402_1005
pins: 1, 2

## CGA2B3X7S1A334M050BB
designator C?, comment 0.33µF
CAP CER 0.33UF 10V X7S 0402; Part Number: CGA2B3X7S1A334M050BB; Manufacturer: TDK Corporation; Tolerance: ±20%; Value: 0.33µF; Applications: Automotive; Capacitance: 0.33µF; ComponentLink1Description: Datasheet; ComponentLink1URL: https://product.tdk.com/info/en/catalog/datasheets/mlcc_automotive_general_en.pdf?ref_disty=digikey; ComponentLink2Description: DigiKey Link; ComponentLink2URL: http://digikey.com/product-detail/en/tdk-corporation/CGA2B3X7S1A334M050BB/445-16099-1-ND/4712578; Device Package: 0402 (1005 Metric); LastUpdated: 9/2/2020 1:02:20 AM; Lifecycle Status: Active; Minimum Order: 1; Mounting Type: Surface Mount, MLCC; Operating Temperature: -55°C ~ 125°C; Package / Case: 0402 (1005 Metric); Packaging: TapeAndReel; PartId: 3687; Part Status: Active; Price: 0.04; Ratings: AEC-Q200; Series: CGA; Size / Dimension: 0.039" L x 0.020" W (1.00mm x 0.50mm); Supplier 1: DigiKey; Supplier Part Number 1: 445-16099-1-ND; Temperature Coefficient: X7S; Thickness (Max): 0.022" (0.55mm); Voltage - Rated: 10V
footprint CAP 0402_1005
pins: 1, 2

## CGA2B3X7S1A474K050BB
designator C?, comment 0.47µF
CAP CER 0.47UF 10V X7S 0402; Part Number: CGA2B3X7S1A474K050BB; Manufacturer: TDK Corporation; Tolerance: ±10%; Value: 0.47µF; Applications: Automotive; Capacitance: 0.47µF; ComponentLink1Description: Datasheet; ComponentLink1URL: https://product.tdk.com/info/en/catalog/datasheets/mlcc_automotive_general_en.pdf?ref_disty=digikey; ComponentLink2Description: DigiKey Link; ComponentLink2URL: http://digikey.com/product-detail/en/tdk-corporation/CGA2B3X7S1A474K050BB/445-16100-1-ND/4712579; Device Package: 0402 (1005 Metric); LastUpdated: 9/2/2020 1:01:11 AM; Lifecycle Status: Active; Minimum Order: 1; Mounting Type: Surface Mount, MLCC; Operating Temperature: -55°C ~ 125°C; Package / Case: 0402 (1005 Metric); Packaging: TapeAndReel; PartId: 13523; Part Status: Active; Price: 0.05; Ratings: AEC-Q200; Series: CGA; Size / Dimension: 0.039" L x 0.020" W (1.00mm x 0.50mm); Supplier 1: DigiKey; Supplier Part Number 1: 445-16100-1-ND; Temperature Coefficient: X7S; Thickness (Max): 0.022" (0.55mm); Voltage - Rated: 10V
footprint CAP 0402_1005
pins: 1, 2

## CGA2B3X7S1A474K050BE
designator C?, comment 0.47µF
CAP CER 0.47UF 10V X7S 0402; Part Number: CGA2B3X7S1A474K050BE; Manufacturer: TDK Corporation; Tolerance: ±10%; Value: 0.47µF; Applications: Automotive, Boardflex Sensitive; Capacitance: 0.47µF; ComponentLink1Description: Datasheet; ComponentLink1URL: https://product.tdk.com/info/en/catalog/datasheets/mlcc_automotive_soft_en.pdf?ref_disty=digikey; ComponentLink2Description: DigiKey Link; ComponentLink2URL: http://digikey.com/product-detail/en/tdk-corporation/CGA2B3X7S1A474K050BE/445-173723-1-ND/5809794; Device Package: 0402 (1005 Metric); Features: Soft Termination; LastUpdated: 9/2/2020 1:02:11 AM; Lifecycle Status: Active; Minimum Order: 1; Mounting Type: Surface Mount, MLCC; Operating Temperature: -55°C ~ 125°C; Package / Case: 0402 (1005 Metric); Packaging: TapeAndReel; PartId: 7629; Part Status: Active; Price: 0.05; Ratings: AEC-Q200; Series: CGA; Size / Dimension: 0.039" L x 0.020" W (1.00mm x 0.50mm); Supplier 1: DigiKey; Supplier Part Number 1: 445-173723-1-ND; Temperature Coefficient: X7S; Thickness (Max): 0.024" (0.60mm); Voltage - Rated: 10V
footprint CAP 0402_1005
pins: 1, 2

## CGA2B3X7S1A474M050BB
designator C?, comment 0.47µF
CAP CER 0.47UF 10V X7S 0402; Part Number: CGA2B3X7S1A474M050BB; Manufacturer: TDK Corporation; Tolerance: ±20%; Value: 0.47µF; Applications: Automotive; Capacitance: 0.47µF; ComponentLink1Description: Datasheet; ComponentLink1URL: https://product.tdk.com/info/en/catalog/datasheets/mlcc_automotive_general_en.pdf?ref_disty=digikey; ComponentLink2Description: DigiKey Link; ComponentLink2URL: http://digikey.com/product-detail/en/tdk-corporation/CGA2B3X7S1A474M050BB/445-16101-1-ND/4712580; Device Package: 0402 (1005 Metric); LastUpdated: 9/2/2020 1:02:11 AM; Lifecycle Status: Active; Minimum Order: 1; Mounting Type: Surface Mount, MLCC; Operating Temperature: -55°C ~ 125°C; Package / Case: 0402 (1005 Metric); Packaging: TapeAndReel; PartId: 7956; Part Status: Active; Price: 0.05; Ratings: AEC-Q200; Series: CGA; Size / Dimension: 0.039" L x 0.020" W (1.00mm x 0.50mm); Supplier 1: DigiKey; Supplier Part Number 1: 445-16101-1-ND; Temperature Coefficient: X7S; Thickness (Max): 0.022" (0.55mm); Voltage - Rated: 10V
footprint CAP 0402_1005
pins: 1, 2

## CGA2B3X7S2A102K050BB
designator C?, comment 1000pF
CAP CER 1000PF 100V X7S 0402; Part Number: CGA2B3X7S2A102K050BB; Manufacturer: TDK Corporation; Tolerance: ±10%; Value: 1000pF; Applications: Automotive; Capacitance: 1000pF; ComponentLink1Description: Datasheet; ComponentLink1URL: https://product.tdk.com/info/en/catalog/datasheets/mlcc_automotive_midvoltage_en.pdf?ref_disty=digikey; ComponentLink2Description: DigiKey Link; ComponentLink2URL: http://digikey.com/product-detail/en/tdk-corporation/CGA2B3X7S2A102K050BB/445-6904-1-ND/2672922; Device Package: 0402 (1005 Metric); LastUpdated: 9/2/2020 1:01:56 AM; Lifecycle Status: Active; Minimum Order: 1; Mounting Type: Surface Mount, MLCC; Operating Temperature: -55°C ~ 125°C; Package / Case: 0402 (1005 Metric); Packaging: TapeAndReel; PartId: 11975; Part Status: Active; Price: 0.03; Ratings: AEC-Q200; Series: CGA; Size / Dimension: 0.039" L x 0.020" W (1.00mm x 0.50mm); Supplier 1: DigiKey; Supplier Part Number 1: 445-6904-1-ND; Temperature Coefficient: X7S; Thickness (Max): 0.022" (0.55mm); Voltage - Rated: 100V
footprint CAP 0402_1005
pins: 1, 2

## CGA2B3X7S2A102M050BB
designator C?, comment 1000pF
CAP CER 1000PF 100V X7S 0402; Part Number: CGA2B3X7S2A102M050BB; Manufacturer: TDK Corporation; Tolerance: ±20%; Value: 1000pF; Applications: Automotive; Capacitance: 1000pF; ComponentLink1Description: Datasheet; ComponentLink1URL: https://product.tdk.com/info/en/catalog/datasheets/mlcc_automotive_midvoltage_en.pdf?ref_disty=digikey; ComponentLink2Description: DigiKey Link; ComponentLink2URL: http://digikey.com/product-detail/en/tdk-corporation/CGA2B3X7S2A102M050BB/445-12287-1-ND/3953953; Device Package: 0402 (1005 Metric); LastUpdated: 9/2/2020 1:02:14 AM; Lifecycle Status: Active; Minimum Order: 1; Mounting Type: Surface Mount, MLCC; Operating Temperature: -55°C ~ 125°C; Package / Case: 0402 (1005 Metric); Packaging: TapeAndReel; PartId: 6437; Part Status: Active; Price: 0.03; Ratings: AEC-Q200; Series: CGA; Size / Dimension: 0.039" L x 0.020" W (1.00mm x 0.50mm); Supplier 1: DigiKey; Supplier Part Number 1: 445-12287-1-ND; Temperature Coefficient: X7S; Thickness (Max): 0.022" (0.55mm); Voltage - Rated: 100V
footprint CAP 0402_1005
pins: 1, 2

## CGA2B3X7S2A103K050BB
designator C?, comment 10000pF
CAP CER 10000PF 100V X7S 0402; Part Number: CGA2B3X7S2A103K050BB; Manufacturer: TDK Corporation; Tolerance: ±10%; Value: 10000pF; Applications: Automotive; Capacitance: 10000pF; ComponentLink1Description: Datasheet; ComponentLink1URL: https://product.tdk.com/info/en/catalog/datasheets/mlcc_automotive_midvoltage_en.pdf?ref_disty=digikey; ComponentLink2Description: DigiKey Link; ComponentLink2URL: http://digikey.com/product-detail/en/tdk-corporation/CGA2B3X7S2A103K050BB/445-6910-1-ND/2672928; Device Package: 0402 (1005 Metric); LastUpdated: 9/2/2020 1:02:06 AM; Lifecycle Status: Active; Minimum Order: 1; Mounting Type: Surface Mount, MLCC; Operating Temperature: -55°C ~ 125°C; Package / Case: 0402 (1005 Metric); Packaging: TapeAndReel; PartId: 9792; Part Status: Active; Price: 0.03; Ratings: AEC-Q200; Series: CGA; Size / Dimension: 0.039" L x 0.020" W (1.00mm x 0.50mm); Supplier 1: DigiKey; Supplier Part Number 1: 445-6910-1-ND; Temperature Coefficient: X7S; Thickness (Max): 0.022" (0.55mm); Voltage - Rated: 100V
footprint CAP 0402_1005
pins: 1, 2

## CGA2B3X7S2A103M050BB
designator C?, comment 10000pF
CAP CER 10000PF 100V X7S 0402; Part Number: CGA2B3X7S2A103M050BB; Manufacturer: TDK Corporation; Tolerance: ±20%; Value: 10000pF; Applications: Automotive; Capacitance: 10000pF; ComponentLink1Description: Datasheet; ComponentLink1URL: https://product.tdk.com/info/en/catalog/datasheets/mlcc_automotive_midvoltage_en.pdf?ref_disty=digikey; ComponentLink2Description: DigiKey Link; ComponentLink2URL: http://digikey.com/product-detail/en/tdk-corporation/CGA2B3X7S2A103M050BB/445-12286-1-ND/3953952; Device Package: 0402 (1005 Metric); LastUpdated: 9/2/2020 1:02:07 AM; Lifecycle Status: Active; Minimum Order: 1; Mounting Type: Surface Mount, MLCC; Operating Temperature: -55°C ~ 125°C; Package / Case: 0402 (1005 Metric); Packaging: TapeAndReel; PartId: 9767; Part Status: Active; Price: 0.03; Ratings: AEC-Q200; Series: CGA; Size / Dimension: 0.039" L x 0.020" W (1.00mm x 0.50mm); Supplier 1: DigiKey; Supplier Part Number 1: 445-12286-1-ND; Temperature Coefficient: X7S; Thickness (Max): 0.022" (0.55mm); Voltage - Rated: 100V
footprint CAP 0402_1005
pins: 1, 2

## CGA2B3X7S2A222K050BB
designator C?, comment 2200pF
CAP CER 2200PF 100V X7S 0402; Part Number: CGA2B3X7S2A222K050BB; Manufacturer: TDK Corporation; Tolerance: ±10%; Value: 2200pF; Applications: Automotive; Capacitance: 2200pF; ComponentLink1Description: Datasheet; ComponentLink1URL: https://product.tdk.com/info/en/catalog/datasheets/mlcc_automotive_midvoltage_en.pdf?ref_disty=digikey; ComponentLink2Description: DigiKey Link; ComponentLink2URL: http://digikey.com/product-detail/en/tdk-corporation/CGA2B3X7S2A222K050BB/445-6906-1-ND/2672924; Device Package: 0402 (1005 Metric); LastUpdated: 9/2/2020 1:01:16 AM; Lifecycle Status: Active; Minimum Order: 1; Mounting Type: Surface Mount, MLCC; Operating Temperature: -55°C ~ 125°C; Package / Case: 0402 (1005 Metric); Packaging: TapeAndReel; PartId: 13386; Part Status: Active; Price: 0.03; Ratings: AEC-Q200; Series: CGA; Size / Dimension: 0.039" L x 0.020" W (1.00mm x 0.50mm); Supplier 1: DigiKey; Supplier Part Number 1: 445-6906-1-ND; Temperature Coefficient: X7S; Thickness (Max): 0.022" (0.55mm); Voltage - Rated: 100V
footprint CAP 0402_1005
pins: 1, 2

## CGA2B3X7S2A222M050BB
designator C?, comment 2200pF
CAP CER 2200PF 100V X7S 0402; Part Number: CGA2B3X7S2A222M050BB; Manufacturer: TDK Corporation; Tolerance: ±20%; Value: 2200pF; Applications: Automotive; Capacitance: 2200pF; ComponentLink1Description: Datasheet; ComponentLink1URL: https://product.tdk.com/info/en/catalog/datasheets/mlcc_automotive_midvoltage_en.pdf?ref_disty=digikey; ComponentLink2Description: DigiKey Link; ComponentLink2URL: http://digikey.com/product-detail/en/tdk-corporation/CGA2B3X7S2A222M050BB/445-12289-1-ND/3953955; Device Package: 0402 (1005 Metric); LastUpdated: 9/2/2020 1:02:04 AM; Lifecycle Status: Active; Minimum Order: 1; Mounting Type: Surface Mount, MLCC; Operating Temperature: -55°C ~ 125°C; Package / Case: 0402 (1005 Metric); Packaging: TapeAndReel; PartId: 11043; Part Status: Active; Price: 0.03; Ratings: AEC-Q200; Series: CGA; Size / Dimension: 0.039" L x 0.020" W (1.00mm x 0.50mm); Supplier 1: DigiKey; Supplier Part Number 1: 445-12289-1-ND; Temperature Coefficient: X7S; Thickness (Max): 0.022" (0.55mm); Voltage - Rated: 100V
footprint CAP 0402_1005
pins: 1, 2

## CGA2B3X7S2A472K050BB
designator C?, comment 4700pF
CAP CER 4700PF 100V X7S 0402; Part Number: CGA2B3X7S2A472K050BB; Manufacturer: TDK Corporation; Tolerance: ±10%; Value: 4700pF; Applications: Automotive; Capacitance: 4700pF; ComponentLink1Description: Datasheet; ComponentLink1URL: https://product.tdk.com/info/en/catalog/datasheets/mlcc_automotive_midvoltage_en.pdf?ref_disty=digikey; ComponentLink2Description: DigiKey Link; ComponentLink2URL: http://digikey.com/product-detail/en/tdk-corporation/CGA2B3X7S2A472K050BB/445-6908-1-ND/2672926; Device Package: 0402 (1005 Metric); LastUpdated: 9/2/2020 1:02:06 AM; Lifecycle Status: Active; Minimum Order: 1; Mounting Type: Surface Mount, MLCC; Operating Temperature: -55°C ~ 125°C; Package / Case: 0402 (1005 Metric); Packaging: TapeAndReel; PartId: 9798; Part Status: Active; Price: 0.03; Ratings: AEC-Q200; Series: CGA; Size / Dimension: 0.039" L x 0.020" W (1.00mm x 0.50mm); Supplier 1: DigiKey; Supplier Part Number 1: 445-6908-1-ND; Temperature Coefficient: X7S; Thickness (Max): 0.022" (0.55mm); Voltage - Rated: 100V
footprint CAP 0402_1005
pins: 1, 2

## CGA2B3X7S2A472M050BB
designator C?, comment 4700pF
CAP CER 4700PF 100V X7S 0402; Part Number: CGA2B3X7S2A472M050BB; Manufacturer: TDK Corporation; Tolerance: ±20%; Value: 4700pF; Applications: Automotive; Capacitance: 4700pF; ComponentLink1Description: Datasheet; ComponentLink1URL: https://product.tdk.com/info/en/catalog/datasheets/mlcc_automotive_midvoltage_en.pdf?ref_disty=digikey; ComponentLink2Description: DigiKey Link; ComponentLink2URL: http://digikey.com/product-detail/en/tdk-corporation/CGA2B3X7S2A472M050BB/445-12291-1-ND/3953957; Device Package: 0402 (1005 Metric); LastUpdated: 9/2/2020 1:02:04 AM; Lifecycle Status: Active; Minimum Order: 1; Mounting Type: Surface Mount, MLCC; Operating Temperature: -55°C ~ 125°C; Package / Case: 0402 (1005 Metric); Packaging: TapeAndReel; PartId: 11046; Part Status: Active; Price: 0.03; Ratings: AEC-Q200; Series: CGA; Size / Dimension: 0.039" L x 0.020" W (1.00mm x 0.50mm); Supplier 1: DigiKey; Supplier Part Number 1: 445-12291-1-ND; Temperature Coefficient: X7S; Thickness (Max): 0.022" (0.55mm); Voltage - Rated: 100V
footprint CAP 0402_1005
pins: 1, 2

## CGA2B3X8R1C473K050BB
designator C?, comment 0.047µF
CAP CER 0.047UF 16V X8R 0402; Part Number: CGA2B3X8R1C473K050BB; Manufacturer: TDK Corporation; Tolerance: ±10%; Value: 0.047µF; Applications: Automotive; Capacitance: 0.047µF; ComponentLink1Description: Datasheet; ComponentLink1URL: https://product.tdk.com/info/en/catalog/datasheets/mlcc_automotive_hightemp_en.pdf?ref_disty=digikey; ComponentLink2Description: DigiKey Link; ComponentLink2URL: http://digikey.com/product-detail/en/tdk-corporation/CGA2B3X8R1C473K050BB/445-12295-1-ND/3953961; Device Package: 0402 (1005 Metric); Features: High Temperature; LastUpdated: 9/2/2020 1:02:08 AM; Lifecycle Status: Active; Minimum Order: 1; Mounting Type: Surface Mount, MLCC; Operating Temperature: -55°C ~ 150°C; Package / Case: 0402 (1005 Metric); Packaging: TapeAndReel; PartId: 9283; Part Status: Active; Price: 0.04; Ratings: AEC-Q200; Series: CGA; Size / Dimension: 0.039" L x 0.020" W (1.00mm x 0.50mm); Supplier 1: DigiKey; Supplier Part Number 1: 445-12295-1-ND; Temperature Coefficient: X8R; Thickness (Max): 0.022" (0.55mm); Voltage - Rated: 16V
footprint CAP 0402_1005
pins: 1, 2

## CGA2B3X8R1C473K050BD
designator C?, comment 0.047µF
CAP CER 0.047UF 16V 0402 EPOXY; Part Number: CGA2B3X8R1C473K050BD; Manufacturer: TDK Corporation; Temperature Coefficient: X8R; Tolerance: ±10%; Value: 0.047µF; Applications: Automotive; Capacitance: 0.047µF; ComponentLink1Description: Datasheet; ComponentLink1URL: https://product.tdk.com/info/en/catalog/datasheets/mlcc_automotive_epoxy_en.pdf?ref_disty=digikey; ComponentLink2Description: DigiKey Link; ComponentLink2URL: http://digikey.com/product-detail/en/tdk-corporation/CGA2B3X8R1C473K050BD/445-9697-1-ND/3931624; Device Package: 0402 (1005 Metric); Features: Epoxy Mountable; LastUpdated: 9/2/2020 1:02:08 AM; Lifecycle Status: Active; Minimum Order: 1; Mounting Type: Surface Mount, MLCC, Epoxy; Operating Temperature: -55°C ~ 150°C; Package / Case: 0402 (1005 Metric); Packaging: TapeAndReel; PartId: 9280; Part Status: Active; Price: 0.04; Ratings: AEC-Q200; Series: CGA; Size / Dimension: 0.039" L x 0.020" W (1.00mm x 0.50mm); Supplier 1: DigiKey; Supplier Part Number 1: 445-9697-1-ND; Thickness (Max): 0.024" (0.60mm); Voltage - Rated: 16V
footprint CAP 0402_1005
pins: 1, 2